# Altium footprint library 2019-05-13_15-35-56.PcbLib: 3 footprints
Each footprint in its own frame and in the unit in brackets; x right, y up, seen from the top. Pads: shape width x height; smd on the part's side, far side on the other; paste and mask are expansions set on the pad; w line width, h text height; cw(c..) or ccw(c..) is an arc to the next point about the centre after c.
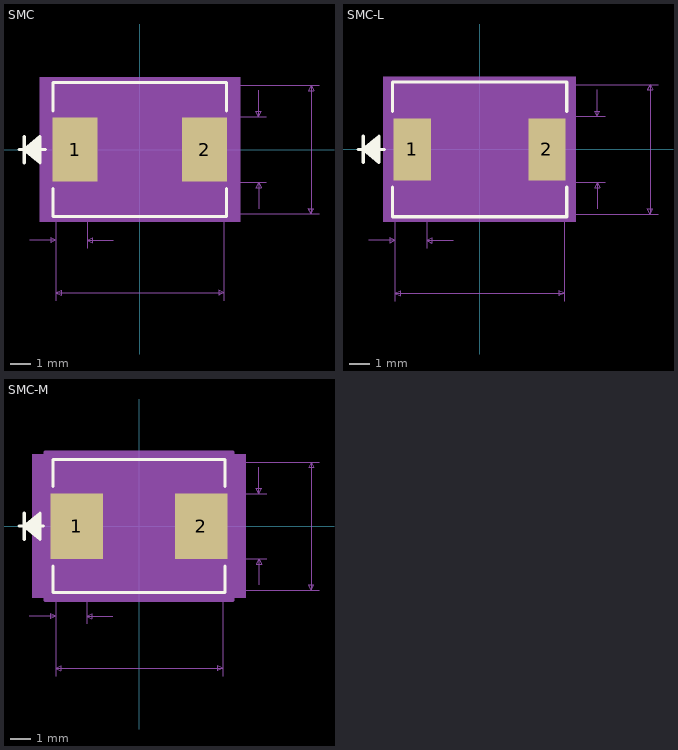
[diagram p0: the footprints below, top view; thin cyan lines are the x and y axes]

## SMC [mm]
pads (2):
  rect 2.17x3.08 smd paste+0 mask+0: 1(-3.13,0) 2(3.13,0)
Top Overlay:
  lines w0.152: -5.843,0 -4.573,0 ; -5.589,-0.635 -5.589,0.635 ; -4.827,-0.508 -5.589,0 ; -4.827,-0.381 -5.589,0 ; -4.827,-0.254 -5.589,0 ; -4.827,-0.127 -5.589,0 ; -4.827,0.127 -5.589,0 ; -4.827,0.254 -5.589,0 ; -4.827,0.381 -5.589,0 ; -4.827,0.508 -5.589,0 ; -4.192,-1.873 -4.192,-3.237 4.192,-3.237 4.192,-1.873 ; -4.192,1.873 -4.192,3.237 4.192,3.237 4.192,1.873 ; -5.589,0 -4.827,0.635 -4.827,-0.635 -5.589,0
Mechanical 5:
  region: 4.85,-3.491 -4.85,-3.491 -4.85,3.491 4.85,3.491
Mechanical 7:
  lines w0.025: -5.335,-4.38 -4.065,-4.38 ; -4.065,-7.301 -4.065,0 -4.065,-4.761 ; -2.545,-4.761 -2.545,0 ; -1.275,-4.38 -2.545,-4.38 ; 4.065,-7.301 4.065,0 ; 4.469,-3.11 8.66,-3.11 ; 4.469,-1.59 6.12,-1.59 ; 4.469,1.59 6.12,1.59 ; 4.469,3.11 8.66,3.11 ; 5.739,-2.86 5.739,-1.59 ; 5.739,2.86 5.739,1.59 ; -4.065,-6.92 4.065,-6.92 ; -4.065,-6.92 -3.811,-6.793 -3.811,-7.047 -4.065,-6.92 ; -4.065,-4.38 -4.319,-4.253 -4.319,-4.507 -4.065,-4.38 ; -2.545,-4.38 -2.291,-4.253 -2.291,-4.507 -2.545,-4.38 ; 4.065,-6.92 3.811,-6.793 3.811,-7.047 4.065,-6.92 ; 5.739,-1.59 5.612,-1.844 5.866,-1.844 5.739,-1.59 ; 5.739,1.59 5.612,1.844 5.866,1.844 5.739,1.59 ; 8.279,-3.11 8.279,3.11 ; 8.279,-3.11 8.152,-2.856 8.406,-2.856 8.279,-3.11 ; 8.279,3.11 8.152,2.856 8.406,2.856 8.279,3.11
  text "Default Padstyle: r217_308" at -8.255,-10.095 h1.27
  text "Alt 1 Padstyle: b152_229h76" at -8.572,-12 h1.27
  text "Alt 2 Padstyle: b229_152h76" at -8.572,-13.905 h1.27
  text "0.125in/3.18mm" at 6.247,-0.318 h0.64
  text "0.245in/6.22mm" at 8.787,-0.318 h0.64
  text "0.32in/8.13mm" at -2.064,-8.063 h0.64
  text "0.06in/1.52mm" at -5.369,-5.523 h0.64
Mechanical 13:
  lines w0.025: -5.843,0 -4.573,0 ; -5.589,-0.635 -5.589,0.635 ; -4.827,-0.508 -5.589,0 ; -4.827,-0.381 -5.589,0 ; -4.827,-0.254 -5.589,0 ; -4.827,-0.127 -5.589,0 ; -4.827,0.127 -5.589,0 ; -4.827,0.254 -5.589,0 ; -4.827,0.381 -5.589,0 ; -4.827,0.508 -5.589,0 ; -5.589,0 -4.827,0.635 -4.827,-0.635 -5.589,0 ; -4.065,-3.11 4.065,-3.11 4.065,3.11 -4.065,3.11 -4.065,-3.11
Mechanical 15:
  region: -4.319,-1.844 -4.469,-1.844 -4.469,1.844 -4.319,1.844 -4.319,3.364 4.319,3.364 4.319,1.844 4.469,1.844 4.469,-1.844 4.319,-1.844 4.319,-3.364 -4.319,-3.364
  lines w0.152: -4.469,-1.844 -4.469,1.844 -4.319,1.844 -4.319,3.364 4.319,3.364 4.319,1.844 4.469,1.844 4.469,-1.844 4.319,-1.844 4.319,-3.364 -4.319,-3.364 -4.319,-1.844 -4.469,-1.844
3D body: height 0.25, standoff 0, extent 0,0 0.254,0.254

## SMC-L [mm]
pads (2):
  rect 1.79x2.98 smd paste+0 mask+0: 1(-3.24,0) 2(3.24,0)
Top Overlay:
  lines w0.152: -5.843,0 -4.573,0 ; -5.589,-0.635 -5.589,0.635 ; -4.827,-0.508 -5.589,0 ; -4.827,-0.381 -5.589,0 ; -4.827,-0.254 -5.589,0 ; -4.827,-0.127 -5.589,0 ; -4.827,0.127 -5.589,0 ; -4.827,0.254 -5.589,0 ; -4.827,0.381 -5.589,0 ; -4.827,0.508 -5.589,0 ; -4.192,-1.818 -4.192,-3.237 4.192,-3.237 4.192,-1.818 ; -4.192,1.818 -4.192,3.237 4.192,3.237 4.192,1.818 ; -5.589,0 -4.827,0.635 -4.827,-0.635 -5.589,0
Mechanical 5:
  region: 4.618,-3.491 -4.618,-3.491 -4.618,3.491 4.618,3.491
Mechanical 7:
  lines w0.025: -5.335,-4.38 -4.065,-4.38 ; -4.065,-7.301 -4.065,0 -4.065,-4.761 ; -2.545,-4.761 -2.545,0 ; -1.275,-4.38 -2.545,-4.38 ; 4.065,-7.301 4.065,0 ; 4.389,-3.11 8.58,-3.11 ; 4.389,-1.59 6.04,-1.59 ; 4.389,1.59 6.04,1.59 ; 4.389,3.11 8.58,3.11 ; 5.659,-2.86 5.659,-1.59 ; 5.659,2.86 5.659,1.59 ; -4.065,-6.92 4.065,-6.92 ; -4.065,-6.92 -3.811,-6.793 -3.811,-7.047 -4.065,-6.92 ; -4.065,-4.38 -4.319,-4.253 -4.319,-4.507 -4.065,-4.38 ; -2.545,-4.38 -2.291,-4.253 -2.291,-4.507 -2.545,-4.38 ; 4.065,-6.92 3.811,-6.793 3.811,-7.047 4.065,-6.92 ; 5.659,-1.59 5.532,-1.844 5.786,-1.844 5.659,-1.59 ; 5.659,1.59 5.532,1.844 5.786,1.844 5.659,1.59 ; 8.199,-3.11 8.199,3.11 ; 8.199,-3.11 8.072,-2.856 8.326,-2.856 8.199,-3.11 ; 8.199,3.11 8.072,2.856 8.326,2.856 8.199,3.11
  text "Default Padstyle: r179_298" at -8.255,-10.095 h1.27
  text "Alt 1 Padstyle: b152_229h76" at -8.572,-12 h1.27
  text "Alt 2 Padstyle: b229_152h76" at -8.572,-13.905 h1.27
  text "0.125in/3.18mm" at 6.167,-0.318 h0.64
  text "0.245in/6.22mm" at 8.707,-0.318 h0.64
  text "0.32in/8.13mm" at -2.064,-8.063 h0.64
  text "0.06in/1.52mm" at -5.369,-5.523 h0.64
Mechanical 13:
  lines w0.025: -5.843,0 -4.573,0 ; -5.589,-0.635 -5.589,0.635 ; -4.827,-0.508 -5.589,0 ; -4.827,-0.381 -5.589,0 ; -4.827,-0.254 -5.589,0 ; -4.827,-0.127 -5.589,0 ; -4.827,0.127 -5.589,0 ; -4.827,0.254 -5.589,0 ; -4.827,0.381 -5.589,0 ; -4.827,0.508 -5.589,0 ; -5.589,0 -4.827,0.635 -4.827,-0.635 -5.589,0 ; -4.065,-3.11 4.065,-3.11 4.065,3.11 -4.065,3.11 -4.065,-3.11
Mechanical 15:
  region: -4.167,-1.692 -4.237,-1.692 -4.237,1.692 -4.167,1.692 -4.167,3.212 4.167,3.212 4.167,1.692 4.237,1.692 4.237,-1.692 4.167,-1.692 4.167,-3.212 -4.167,-3.212
  lines w0.152: -4.237,-1.692 -4.237,1.692 -4.167,1.692 -4.167,3.212 4.167,3.212 4.167,1.692 4.237,1.692 4.237,-1.692 4.167,-1.692 4.167,-3.212 -4.167,-3.212 -4.167,-1.692 -4.237,-1.692
3D body: height 0.25, standoff 0, extent 0,0 0.254,0.254

## SMC-M [mm]
pads (2):
  rect 2.57x3.2 smd paste+0 mask+0: 1(-3.03,0) 2(3.03,0)
Top Overlay:
  lines w0.152: -5.843,0 -4.648,0 ; -5.589,-0.635 -5.589,0.635 ; -4.827,-0.508 -5.589,0 ; -4.827,-0.381 -5.589,0 ; -4.827,-0.254 -5.589,0 ; -4.827,-0.127 -5.589,0 ; -4.827,0.127 -5.589,0 ; -4.827,0.254 -5.589,0 ; -4.827,0.381 -5.589,0 ; -4.827,0.508 -5.589,0 ; -4.192,-1.933 -4.192,-3.237 4.192,-3.237 4.192,-1.933 ; -4.192,1.933 -4.192,3.237 4.192,3.237 4.192,1.933 ; -5.589,0 -4.827,0.635 -4.827,-0.635 -5.589,0
Mechanical 5:
  region: 5.204,-3.491 -5.204,-3.491 -5.204,3.491 5.204,3.491
Mechanical 7:
  lines w0.025: -5.335,-4.38 -4.065,-4.38 ; -4.065,-7.301 -4.065,0 -4.065,-4.761 ; -2.545,-4.761 -2.545,0 ; -1.275,-4.38 -2.545,-4.38 ; 4.065,-7.301 4.065,0 ; 4.569,-3.11 8.76,-3.11 ; 4.569,-1.59 6.22,-1.59 ; 4.569,1.59 6.22,1.59 ; 4.569,3.11 8.76,3.11 ; 5.839,-2.86 5.839,-1.59 ; 5.839,2.86 5.839,1.59 ; -4.065,-6.92 4.065,-6.92 ; -4.065,-6.92 -3.811,-6.793 -3.811,-7.047 -4.065,-6.92 ; -4.065,-4.38 -4.319,-4.253 -4.319,-4.507 -4.065,-4.38 ; -2.545,-4.38 -2.291,-4.253 -2.291,-4.507 -2.545,-4.38 ; 4.065,-6.92 3.811,-6.793 3.811,-7.047 4.065,-6.92 ; 5.839,-1.59 5.712,-1.844 5.966,-1.844 5.839,-1.59 ; 5.839,1.59 5.712,1.844 5.966,1.844 5.839,1.59 ; 8.379,-3.11 8.379,3.11 ; 8.379,-3.11 8.252,-2.856 8.506,-2.856 8.379,-3.11 ; 8.379,3.11 8.252,2.856 8.506,2.856 8.379,3.11
  text "Default Padstyle: r257_320" at -8.255,-10.095 h1.27
  text "Alt 1 Padstyle: b152_229h76" at -8.572,-12 h1.27
  text "Alt 2 Padstyle: b229_152h76" at -8.572,-13.905 h1.27
  text "0.125in/3.18mm" at 6.347,-0.318 h0.64
  text "0.245in/6.22mm" at 8.887,-0.318 h0.64
  text "0.32in/8.13mm" at -2.064,-8.063 h0.64
  text "0.06in/1.52mm" at -5.369,-5.523 h0.64
Mechanical 13:
  lines w0.025: -5.843,0 -4.573,0 ; -5.589,-0.635 -5.589,0.635 ; -4.827,-0.508 -5.589,0 ; -4.827,-0.381 -5.589,0 ; -4.827,-0.254 -5.589,0 ; -4.827,-0.127 -5.589,0 ; -4.827,0.127 -5.589,0 ; -4.827,0.254 -5.589,0 ; -4.827,0.381 -5.589,0 ; -4.827,0.508 -5.589,0 ; -5.589,0 -4.827,0.635 -4.827,-0.635 -5.589,0 ; -4.065,-3.11 4.065,-3.11 4.065,3.11 -4.065,3.11 -4.065,-3.11
Mechanical 15:
  region: -4.573,-2.098 -4.823,-2.098 -4.823,2.098 -4.573,2.098 -4.573,3.618 4.573,3.618 4.573,2.098 4.823,2.098 4.823,-2.098 4.573,-2.098 4.573,-3.618 -4.573,-3.618
  lines w0.152: -4.823,-2.098 -4.823,2.098 -4.573,2.098 -4.573,3.618 4.573,3.618 4.573,2.098 4.823,2.098 4.823,-2.098 4.573,-2.098 4.573,-3.618 -4.573,-3.618 -4.573,-2.098 -4.823,-2.098
3D body: height 0.25, standoff 0, extent 0,0 0.254,0.254